# Altium schematic symbol library adm3485arz.SchLib: 1 symbol
Pins are listed as number, name and electrical type; pins without a type are passive.

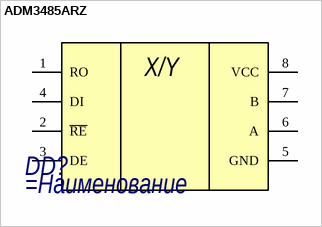
[diagram p0: symbol ADM3485ARZ]

## ADM3485ARZ
designator DD?
=Описание
pins: 1 RO, 2 ~{RE}, 3 DE, 4 DI, 5 GND, 6 A, 7 B, 8 VCC
text: X/Y